# Altium footprint library Library.PcbLib: 124 footprints (part 1 of 8)
Each footprint in its own frame and in the unit in brackets; x right, y up, seen from the top. Pads: shape width x height; smd on the part's side, far side on the other; paste and mask are expansions set on the pad; w line width, h text height; cw(c..) or ccw(c..) is an arc to the next point about the centre after c.
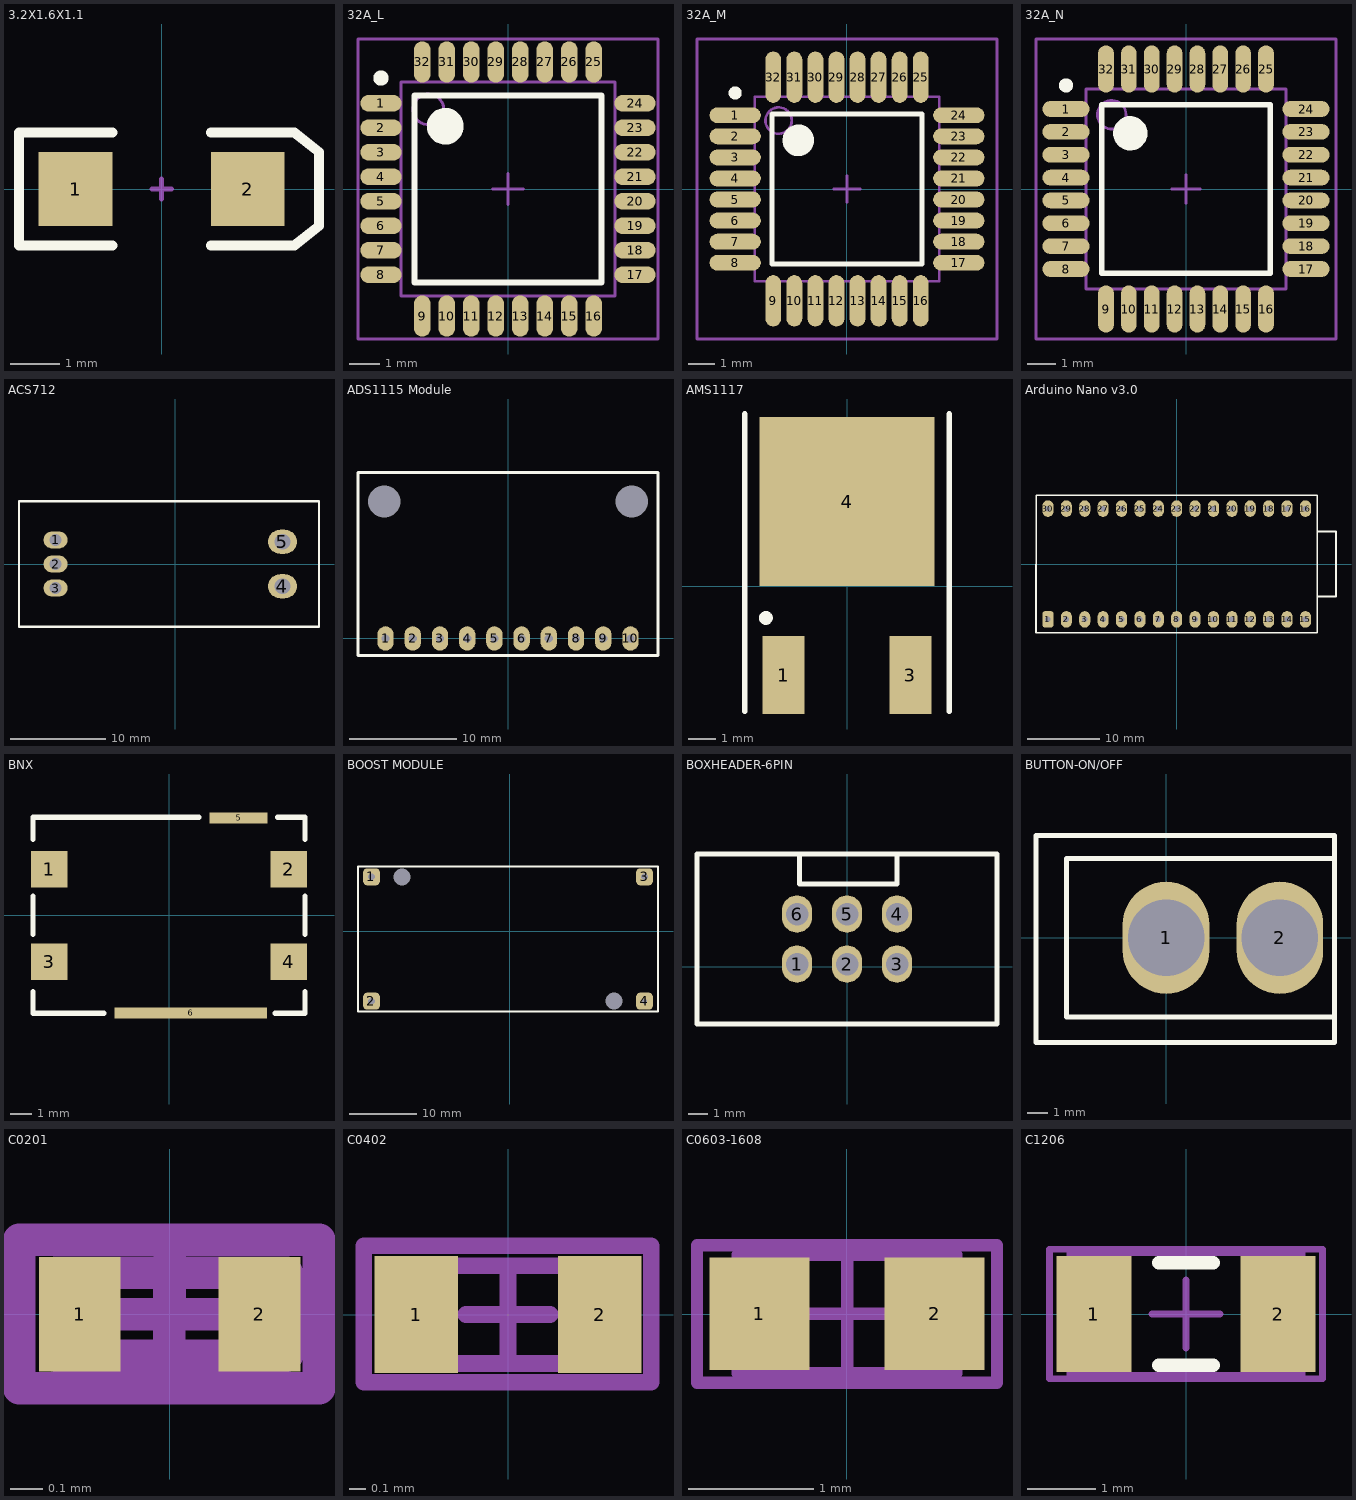
[diagram p0: the footprints below, top view; thin cyan lines are the x and y axes]

## 3.2X1.6X1.1 [mm] "SMT LED; 2 Flat Leads"
height 1.2
pads (2):
  rect 1.5x1.5 smd: 1(-1.75,0) 2(1.75,0)
Top Overlay:
  lines w0.2: -1,-1.15 -2.9,-1.15 -2.9,1.15 -1,1.15 ; 1,-1.15 2.7,-1.15 3.2,-0.75 3.2,0.75 2.7,1.15 1,1.15
Mechanical 1:
  lines w0.1: -0.2,0 0.2,0 ; 0,-0.2 0,0.2

## 32A_L [mm] "Thin QFP, 32-Leads, Body 7x7mm, Pitch 0.8mm, IPC High Density"
height 1.2
pads (32):
  oval 1.35x0.55 smd: 1(-4.15,2.8) 2(-4.15,2) 3(-4.15,1.2) 4(-4.15,0.4) 5(-4.15,-0.4) 6(-4.15,-1.2) 7(-4.15,-2) 8(-4.15,-2.8) 17(4.15,-2.8) 18(4.15,-2) 19(4.15,-1.2) 20(4.15,-0.4) 21(4.15,0.4) 22(4.15,1.2) 23(4.15,2) 24(4.15,2.8)
  oval 0.55x1.35 smd: 9(-2.8,-4.15) 10(-2,-4.15) 11(-1.2,-4.15) 12(-0.4,-4.15) 13(0.4,-4.15) 14(1.2,-4.15) 15(2,-4.15) 16(2.8,-4.15) 25(2.8,4.15) 26(2,4.15) 27(1.2,4.15) 28(0.4,4.15) 29(-0.4,4.15) 30(-1.2,4.15) 31(-2,4.15) 32(-2.8,4.15)
Top Overlay:
  circle w0.6: c-2.05,2.05 r0.3
  circle w0.25: c-4.15,3.625 r0.125
  lines w0.2: -3.05,-3.05 3.05,-3.05 3.05,3.05 -3.05,3.05 -3.05,-3.05
Mechanical 13:
  circle w0.1: c-2.6,2.6 r0.5
  lines w0.1: -3.5,-3.5 3.5,-3.5 3.5,3.5 -3.5,3.5 -3.5,-3.5
Mechanical 15:
  lines w0.1: -0.5,0 0.5,0 ; 0,-0.5 0,0.5 ; -4.9,-4.9 4.9,-4.9 4.9,4.9 -4.9,4.9 -4.9,-4.9
3D body: height 1.2, standoff 0, extent -3.5,-3.5 3.5,3.5

## 32A_M [mm] "Thin QFP, 32-Leads, Body 7x7mm, Pitch 0.8mm, IPC Low Density"
height 1.2
pads (32):
  oval 1.95x0.6 smd: 1(-4.25,2.8) 2(-4.25,2) 3(-4.25,1.2) 4(-4.25,0.4) 5(-4.25,-0.4) 6(-4.25,-1.2) 7(-4.25,-2) 8(-4.25,-2.8) 17(4.25,-2.8) 18(4.25,-2) 19(4.25,-1.2) 20(4.25,-0.4) 21(4.25,0.4) 22(4.25,1.2) 23(4.25,2) 24(4.25,2.8)
  oval 0.6x1.95 smd: 9(-2.8,-4.25) 10(-2,-4.25) 11(-1.2,-4.25) 12(-0.4,-4.25) 13(0.4,-4.25) 14(1.2,-4.25) 15(2,-4.25) 16(2.8,-4.25) 25(2.8,4.25) 26(2,4.25) 27(1.2,4.25) 28(0.4,4.25) 29(-0.4,4.25) 30(-1.2,4.25) 31(-2,4.25) 32(-2.8,4.25)
Top Overlay:
  circle w0.6: c-1.85,1.85 r0.3
  circle w0.25: c-4.25,3.65 r0.125
  lines w0.2: -2.85,-2.85 2.85,-2.85 2.85,2.85 -2.85,2.85 -2.85,-2.85
Mechanical 13:
  circle w0.1: c-2.6,2.6 r0.5
  lines w0.1: -3.5,-3.5 3.5,-3.5 3.5,3.5 -3.5,3.5 -3.5,-3.5
Mechanical 15:
  lines w0.1: -0.5,0 0.5,0 ; 0,-0.5 0,0.5 ; -5.7,-5.7 5.7,-5.7 5.7,5.7 -5.7,5.7 -5.7,-5.7
3D body: height 1.2, standoff 0, extent -3.5,-3.5 3.5,3.5

## 32A_N [mm] "Thin QFP, 32-Leads, Body 7x7mm, Pitch 0.8mm, IPC Medium Density"
height 1.2
pads (32):
  oval 1.65x0.55 smd: 1(-4.2,2.8) 2(-4.2,2) 3(-4.2,1.2) 4(-4.2,0.4) 5(-4.2,-0.4) 6(-4.2,-1.2) 7(-4.2,-2) 8(-4.2,-2.8) 17(4.2,-2.8) 18(4.2,-2) 19(4.2,-1.2) 20(4.2,-0.4) 21(4.2,0.4) 22(4.2,1.2) 23(4.2,2) 24(4.2,2.8)
  oval 0.55x1.65 smd: 9(-2.8,-4.2) 10(-2,-4.2) 11(-1.2,-4.2) 12(-0.4,-4.2) 13(0.4,-4.2) 14(1.2,-4.2) 15(2,-4.2) 16(2.8,-4.2) 25(2.8,4.2) 26(2,4.2) 27(1.2,4.2) 28(0.4,4.2) 29(-0.4,4.2) 30(-1.2,4.2) 31(-2,4.2) 32(-2.8,4.2)
Top Overlay:
  circle w0.6: c-1.95,1.95 r0.3
  circle w0.25: c-4.2,3.625 r0.125
  lines w0.2: -2.95,-2.95 2.95,-2.95 2.95,2.95 -2.95,2.95 -2.95,-2.95
Mechanical 13:
  circle w0.1: c-2.6,2.6 r0.5
  lines w0.1: -3.5,-3.5 3.5,-3.5 3.5,3.5 -3.5,3.5 -3.5,-3.5
Mechanical 15:
  lines w0.1: -0.5,0 0.5,0 ; 0,-0.5 0,0.5 ; -5.25,-5.25 5.25,-5.25 5.25,5.25 -5.25,5.25 -5.25,-5.25
3D body: height 1.2, standoff 0, extent -3.5,-3.5 3.5,3.5

## ACS712 [mil]
pads (5):
  oval 100x70 hole 50: 1(-496.25,100) 2(-496.25,0) 3(-496.25,-100)
  oval 120x100 hole 65: 4(446.25,-92.5) 5(446.25,92.5)
Top Overlay:
  lines w10: -648,-261 -648,261 598,261 598,-261 -648,-261

## ADS1115 Module [mil] "ADS1115 Module"
height 196.85
pads (12):
  oval 60x90 hole 30: 1(-450,0) 2(-350,0) 3(-250,0) 4(-150,0) 5(-50,0) 6(50,0) 7(150,0) 8(250,0) 9(350,0) 10(450,0)
  round 0 hole 118.11: 11(-454.72,503.94) 12(454.72,503.94)
Top Overlay:
  lines w10: -551.18,-62.99 -551.18,610.24 551.18,610.24 551.18,-62.99 -551.18,-62.99

## AMS1117 [mm]
pads (3):
  rect 1.5x2.8 smd: 1(-2.286,-3.2) 3(2.286,-3.2)
  rect 6.3x6.1 smd: 4(0,3.05)
Top Overlay:
  circle w0.25: c-2.921,-1.143 r0.125
  lines w0.2: -3.683,-4.5 -3.683,6.2 ; 3.683,-4.5 3.683,6.2

## Arduino Nano v3.0 [mil] "Arduino Nano v3.0"
height 236.22
pads (30):
  rrect50% 60x90 hole 30: 1(-700,-301.18)
  oval 60x90 hole 30: 2(-600,-301.18) 3(-500,-301.18) 4(-400,-301.18) 5(-300,-301.18) 6(-200,-301.18) 7(-100,-301.18) 8(0,-301.18) 9(100,-301.18) 10(200,-301.18) 11(300,-301.18) 12(400,-301.18) 13(500,-301.18) 14(600,-301.18) 15(700,-301.18) 16(700,301.18) 17(600,301.18) 18(500,301.18) 19(400,301.18) 20(300,301.18) 21(200,301.18) 22(100,301.18) 23(0,301.18) 24(-100,301.18) 25(-200,301.18) 26(-300,301.18) 27(-400,301.18) 28(-500,301.18) 29(-600,301.18) 30(-700,301.18)
Top Overlay:
  lines w10: -765,-374.02 -763.78,374.02 763.78,374.02 763.78,-374.02 -763.78,-374.02 ; 763.78,-177.17 866.14,-177.17 866.14,177.17 763.78,177.17

## BNX [mil]
height 137.8
pads (6):
  rect 66.93x66.93 smd: 1(-220,85) 2(220,85) 3(-220,-85) 4(220,-85)
  rect 106.3x20 smd: 5(127.95,179.13)
  rect 280x20 smd: 6(40,-179.13)
Top Overlay:
  lines w10: -250,-140 -250,-180 -120,-180 ; -250,-35 -250,35 ; -250,140 -250,180 55,180 ; 195,-180 250,-180 250,-140 ; 200,180 250,180 250,140 ; 250,-35 250,35

## BOOST MODULE [mil]
pads (6):
  rrect50% 100x100 hole 40: 1(-811,320) 2(-811,-410) 3(791,320)
  rrect50% 100x100 hole 30: 4(791,-410)
  round 0 hole 100: 5(611,-410) 6(-631,320)
Top Overlay:
  lines w10: -890,-470 -890,380 870,380 870,-470 -890,-470

## BOXHEADER-6PIN [mil]
pads (6):
  oval 60x75 hole 45: 1(-100,5) 2(0,5) 3(100,5) 4(100,105) 5(0,105) 6(-100,105)
Top Overlay:
  lines w10: -95,225 -95,165 100,165 100,225 ; -300,-115 300,-115 300,225 -300,225 -300,-115

## BUTTON-ON/OFF [mil]
pads (2):
  oval 170x220 hole 150: 1(0,0) 2(223,0)
Top Overlay:
  lines w10: 330,-155 -195,-155 -195,155 330,155 330,165 ; -255,-205 -255,200 330,200 330,-205 -255,-205

## C0201 [mm]
pads (2):
  rect 0.25x0.35 smd: 1(-0.275,0) 2(0.275,0)
Mechanical 13:
  lines w0.1: -0.348,-0.127 0.359,-0.127 0.359,0.127 -0.348,0.127 -0.348,-0.127
Mechanical 15:
  lines w0.1: -0.275,0 0.275,0 ; -0.002,-0.227 0,0.228 ; -0.461,-0.227 -0.461,0.228 0.457,0.228 0.457,-0.227 -0.461,-0.227
3D body: height 1.3, standoff 0, extent -0.348,-0.127 0.359,0.127

## C0402 [mm]
pads (2):
  rect 0.5x0.7 smd: 1(-0.55,0) 2(0.55,0)
Mechanical 13:
  lines w0.1: -0.635,-0.294 -0.635,0.293 0.635,0.293 0.635,-0.294 -0.635,-0.294
Mechanical 15:
  lines w0.1: -0.254,0 0.254,0 ; 0,-0.294 0,0.293 ; -0.865,-0.406 0.86,-0.406 0.86,0.412 -0.865,0.412 -0.865,-0.406
3D body: height 1.3, standoff 0, extent -0.635,-0.294 0.635,0.293

## C0603-1608 [mm] "Chip Capacitor, Body 1.6x0.8mm, IPC High Density"
height 1.3
pads (2):
  rect 0.8x0.9 smd: 1(-0.7,0) 2(0.7,0)
Mechanical 13:
  lines w0.1: -0.875,-0.475 0.875,-0.475 0.875,0.475 -0.875,0.475 -0.875,-0.475
Mechanical 15:
  lines w0.1: -0.475,0 0.475,0 ; 0,-0.475 0,0.475 ; -1.2,-0.55 1.2,-0.55 1.2,0.55 -1.2,0.55 -1.2,-0.55
3D body: height 1.3, standoff 0, extent -0.875,-0.475 0.875,0.475

## C1206 [mm] "Chip Capacitor, Body 3.2x1.6mm, IPC High Density"
height 1.3
pads (2):
  rect 1.1x1.7 smd: 1(-1.35,0) 2(1.35,0)
Top Overlay:
  lines w0.2: -0.4,-0.75 0.4,-0.75 ; -0.4,0.75 0.4,0.75
Mechanical 13:
  lines w0.1: -1.7,-0.9 1.7,-0.9 1.7,0.9 -1.7,0.9 -1.7,-0.9
Mechanical 15:
  lines w0.1: -0.5,0 0.5,0 ; 0,-0.5 0,0.5 ; -2,-0.95 2,-0.95 2,0.95 -2,0.95 -2,-0.95
3D body: height 1.3, standoff 0, extent -1.7,-0.9 1.7,0.9